# EAGLE library part WD33C93 (library Amiga)
WD33C93 -SCSI-Chip WD33C93A AM33C93 P16
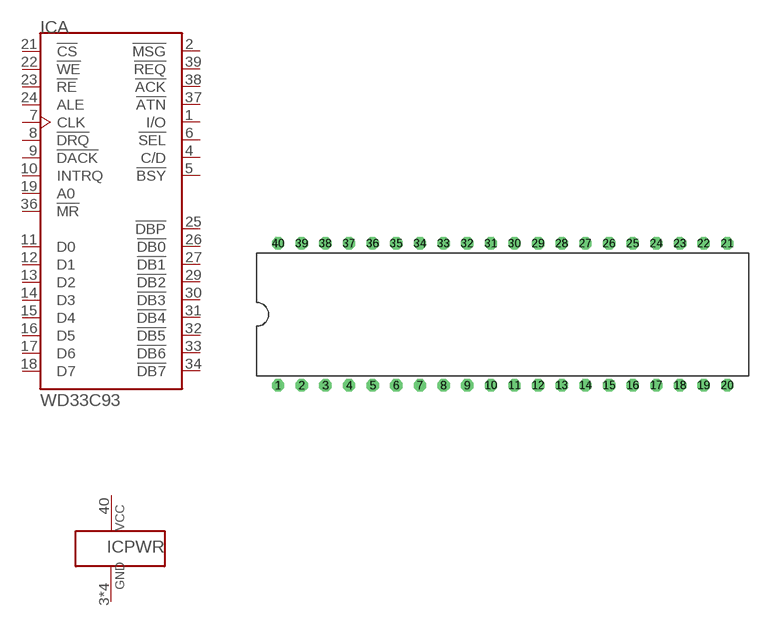
[diagram p1: symbol with the pads of DIP40-6; footprint DIP40-6]

Designator prefix IC; gates A=WD33C93 PWR=1VCC-1GND

## WD33C93DIP40  [DIP40-6]
1  A:I/O
2  A:!MSG
3  PWR:GND1  pwr
4  A:C/D
5  A:!BSY
6  A:!SEL
7  A:CLK  in
8  A:!DRQ
9  A:!DACK
10  A:INTRQ
11  A:D0
12  A:D1
13  A:D2
14  A:D3
15  A:D4
16  A:D5
17  A:D6
18  A:D7
19  A:A0
20  PWR:GND1  pwr
21  A:!CS
22  A:!WE
23  A:!RE
24  A:ALE
25  A:!DBP
26  A:!DB0
27  A:!DB1
28  PWR:GND1  pwr
29  A:!DB2
30  A:!DB3
31  A:!DB4
32  A:!DB5
33  A:!DB6
34  A:!DB7
35  PWR:GND1  pwr
36  A:!MR
37  A:!ATN
38  A:!ACK
39  A:!REQ
40  PWR:VCC1  pwr

## Footprint DIP40-6 (pad centres in mm)
Commodore custom chips
drill 0.813 octagon: 1 -24.13,-7.62; 2 -21.59,-7.62; 3 -19.05,-7.62; 4 -16.51,-7.62; 5 -13.97,-7.62; 6 -11.43,-7.62; 7 -8.89,-7.62; 8 -6.35,-7.62; 9 -3.81,-7.62; 10 -1.27,-7.62; 11 1.27,-7.62; 12 3.81,-7.62; 13 6.35,-7.62; 14 8.89,-7.62; 15 11.43,-7.62; 16 13.97,-7.62; 17 16.51,-7.62; 18 19.05,-7.62; 19 21.59,-7.62; 20 24.13,-7.62; 21 24.13,7.62; 22 21.59,7.62; 23 19.05,7.62; 24 16.51,7.62; 25 13.97,7.62; 26 11.43,7.62; 27 8.89,7.62; 28 6.35,7.62; 29 3.81,7.62; 30 1.27,7.62; 31 -1.27,7.62; 32 -3.81,7.62; 33 -6.35,7.62; 34 -8.89,7.62; 35 -11.43,7.62; 36 -13.97,7.62; 37 -16.51,7.62; 38 -19.05,7.62; 39 -21.59,7.62; 40 -24.13,7.62